# Altium footprint library ESC.PcbLib: 44 footprints (part 2 of 3)
Each footprint in its own frame and in the unit in brackets; x right, y up, seen from the top. Pads: shape width x height; smd on the part's side, far side on the other; paste and mask are expansions set on the pad; w line width, h text height; cw(c..) or ccw(c..) is an arc to the next point about the centre after c.
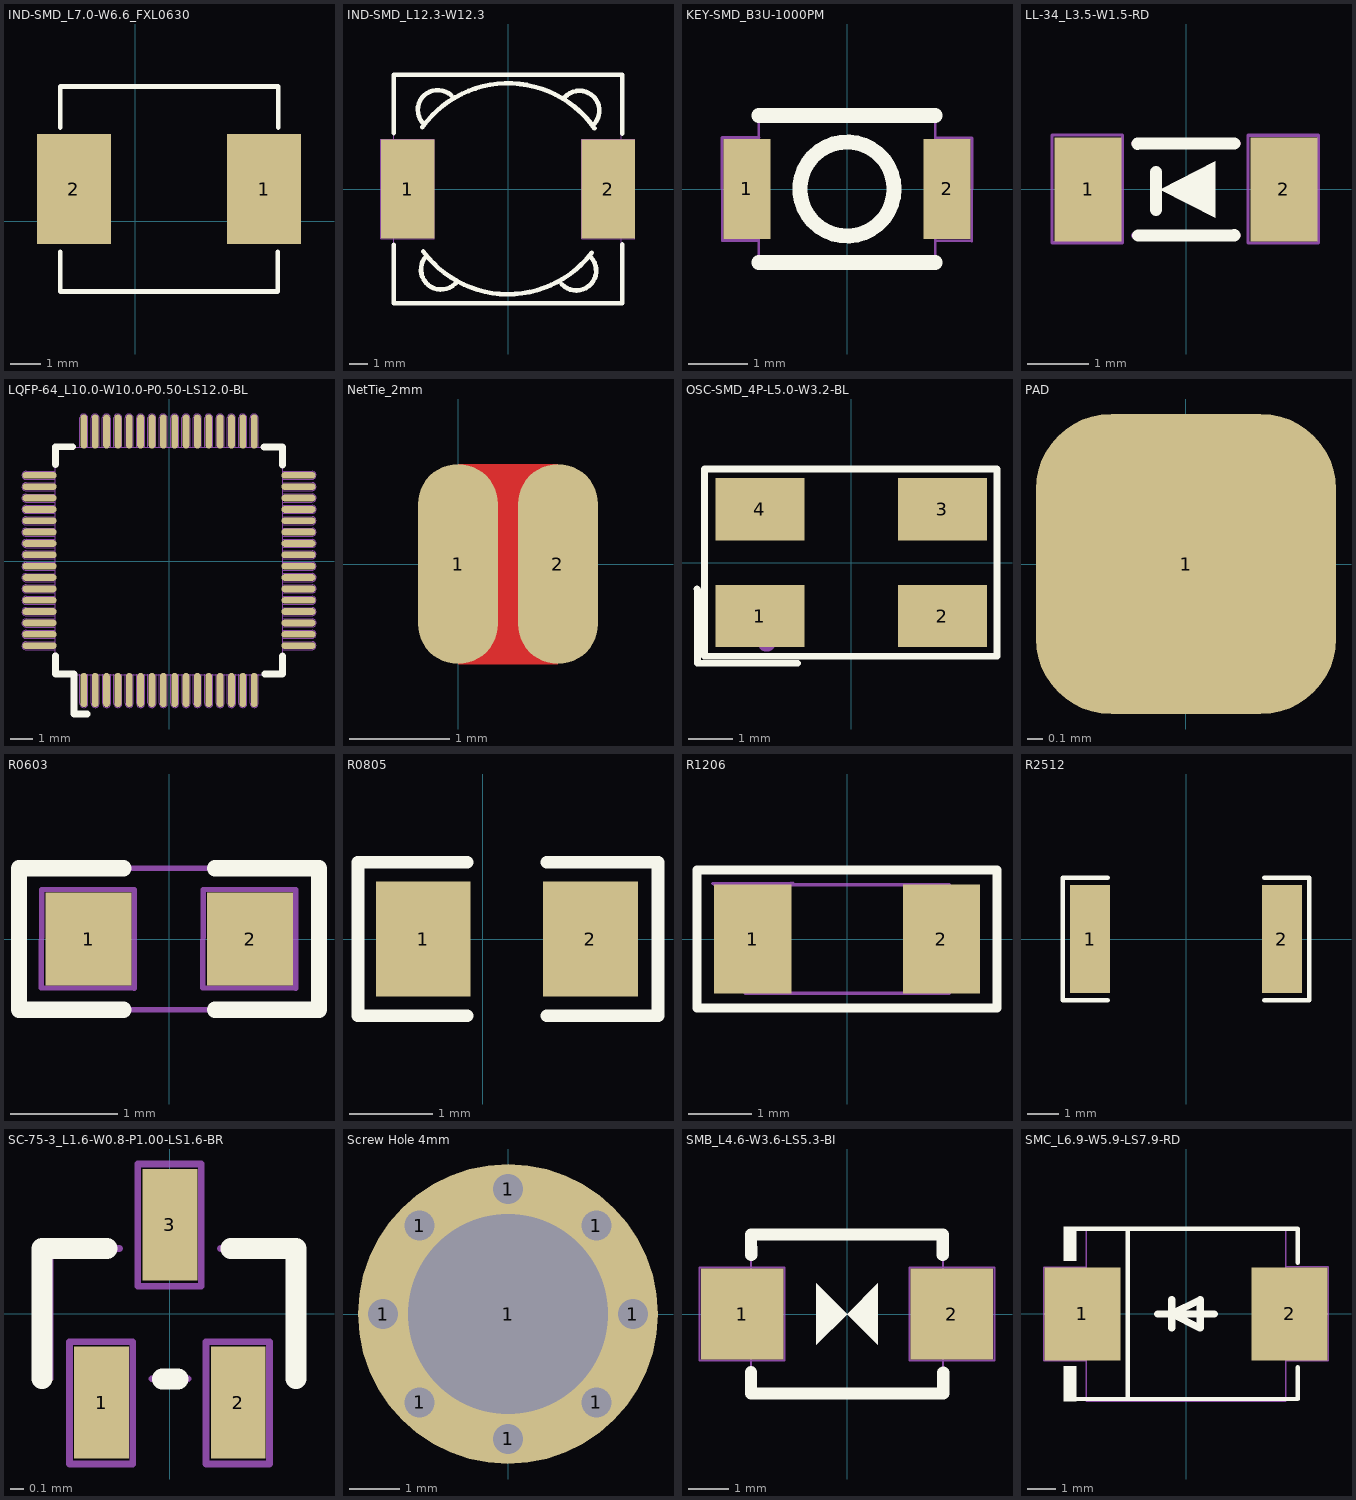
[diagram p1: the footprints below, top view; thin cyan lines are the x and y axes]

## IND-SMD_L7.0-W6.6_FXL0630 [mm] "SMD,7x6.6mm"
height 3
pads (2):
  rect 2.424x3.62 smd paste+0 mask+0.051: 1(4.236,1.067) 2(-2.02,1.067)
Top Overlay:
  lines w0.152: -2.468,-0.998 -2.468,-2.309 4.685,-2.309 4.685,-0.997 ; -2.468,3.093 -2.468,4.443 4.7,4.443 4.7,3.09
3D body "IND_FXL0630_CMT.step": height 3, standoff 0, extent -2.537,-2.365 4.753,4.443

## IND-SMD_L12.3-W12.3 [mm] "SMD,12.3x12.3mm"
height 8
pads (2):
  rect 2.9x5.4 smd paste+0 mask+0.051: 1(-5.45,0) 2(5.45,0)
Top Overlay:
  lines w0.254: -6.2,-3.032 -6.2,-6.2 6.2,-6.2 6.2,-3.016 ; -6.2,3.044 -6.2,6.2 6.2,6.2 6.2,3.012 ; -4.666,3.348 cw(c0,0) 4.7,3.3 ; -4.6,-3.4 ccw(c0,0) 4.552,-3.464 ; -4.55,3.504 cw(c-3.822,4.299) -3.1,5.1 ; -4.534,-3.759 ccw(c-3.641,-4.378) -2.758,-5.011 ; 2.927,-5.176 ccw(c3.711,-4.435) 4.5,-3.7 ; 3.088,4.988 cw(c3.883,4.26) 4.683,3.538
Mechanical 2:
  lines w0.05: -6.905,2.7 -6.905,-2.705 -4,-2.705 -4,2.7 -6.9,2.7 ; 3.995,2.7 3.995,-2.705 6.9,-2.705 6.9,2.7 4,2.7 ; -6.2,-6.15 6.15,-6.15 6.15,6.15 -6.2,6.15 -6.2,-6.15
3D body "IND_CDRH127LDNP-470MC_SUM.step": height 8, standoff 0, extent -6.147,-6.149 6.147,6.149

## KEY-SMD_B3U-1000PM [mm]
height 1.6
pads (2):
  rect 0.8x1.7 smd paste+0 mask+0.051: 1(-1.7,0) 2(1.7,0)
Top Overlay:
  circle w0.254: c0,0 r0.8
  lines w0.254: -1.5,-1.25 1.5,-1.25 -1.5,-1.25 ; -1.5,1.25 1.5,1.25 -1.5,1.25
Mechanical 2:
  circle w0.05: c0,0 r0.762
  lines w0.05: -1.503,-0.877 -2.121,-0.872 -2.124,0.873 -1.492,0.873 ; 1.5,0.87 2.124,0.87 2.121,-0.884 1.507,-0.879 ; -1.5,-1.25 1.5,-1.25 1.5,1.081 1.5,1.25 -1.5,1.25 -1.5,-1.25
3D body "B3U-1000P--3DModel-STEP-56544.STEP": height 1.75, standoff 0, extent -2,-1.25 2,1.25

## LL-34_L3.5-W1.5-RD [mm]
pads (2):
  rect 1.1x1.7 smd paste+0 mask+0.051: 1(-1.6,0) 2(1.6,0)
Top Overlay:
  region: -0.42,-0.005 -0.415,0 0.475,0.46 0.475,-0.46
  lines w0.2: -0.791,0.748 0.789,0.751 ; -0.781,-0.75 0.787,-0.749 ; -0.49,-0.33 -0.49,0.285
Mechanical 2:
  lines w0.05: -2.189,-0.87 -2.189,0.89 -1.039,0.89 -1.039,-0.87 -2.189,-0.87 ; 1.015,-0.875 1.015,0.885 2.165,0.885 2.165,-0.875 1.015,-0.875
  lines w0.1: -0.846,-0.75 0.846,-0.75 ; -0.846,0.75 0.846,0.75
Mechanical 15:
  region: 1.604,-0.335 1.604,0.326 1.782,0.326 1.782,-0.335
  region: 2.035,-0.096 1.374,-0.096 1.374,0.082 2.035,0.082
  region: -1.365,-0.096 -2.026,-0.096 -2.026,0.082 -1.365,0.082
3D body "ZMM5V6HCB--3DModel-STEP-711646.STEP": height 1.52, standoff 0.08, extent -1.75,-0.75 1.75,0.717

## LQFP-64_L10.0-W10.0-P0.50-LS12.0-BL [mm] "LQFP-64(10x10)"
height 1.6
pads (64):
  oval 0.3x1.5 smd paste+0 mask+0.051: 1(-3.75,-5.678) 2(-3.25,-5.678) 3(-2.75,-5.678) 4(-2.25,-5.678) 5(-1.75,-5.678) 6(-1.25,-5.678) 7(-0.75,-5.678) 8(-0.25,-5.678) 9(0.25,-5.678) 10(0.75,-5.678) 11(1.25,-5.678) 12(1.75,-5.678) 13(2.25,-5.678) 14(2.75,-5.678) 15(3.25,-5.678) 16(3.75,-5.678) 33(3.75,5.698) 34(3.25,5.698) 35(2.75,5.698) 36(2.25,5.698) 37(1.75,5.698) 38(1.25,5.698) 39(0.75,5.698) 40(0.25,5.698) 41(-0.25,5.698) 42(-0.75,5.698) 43(-1.25,5.698) 44(-1.75,5.698) 45(-2.25,5.698) 46(-2.75,5.698) 47(-3.25,5.698) 48(-3.75,5.698)
  oval 1.5x0.3 smd paste+0 mask+0.051: 17(5.7,-3.728) 18(5.7,-3.228) 19(5.7,-2.728) 20(5.7,-2.228) 21(5.7,-1.728) 22(5.7,-1.228) 23(5.7,-0.728) 24(5.7,-0.228) 25(5.7,0.272) 26(5.7,0.772) 27(5.7,1.272) 28(5.7,1.772) 29(5.7,2.272) 30(5.7,2.772) 31(5.7,3.272) 32(5.7,3.772) 49(-5.7,3.772) 50(-5.7,3.272) 51(-5.7,2.772) 52(-5.7,2.272) 53(-5.7,1.772) 54(-5.7,1.272) 55(-5.7,0.772) 56(-5.7,0.272) 57(-5.7,-0.228) 58(-5.7,-0.728) 59(-5.7,-1.228) 60(-5.7,-1.728) 61(-5.7,-2.228) 62(-5.7,-2.728) 63(-5.7,-3.228) 64(-5.7,-3.728)
Top Overlay:
  lines w0.3: -5,4.252 -5,5.026 -4.237,5.026 ; -4.2,-4.977 -5,-4.977 -5,-4.167 ; -4.185,-4.978 -4.185,-6.735 -3.6,-6.735 ; 4.183,5.022 5,5.022 5,4.225 ; 4.217,-4.978 5,-4.978 5,-4.187 ; -5,-4.167 -5,-4.167
Mechanical 2:
  drawing of 196 lines, arcs and shapes, not listed
3D body "LQFP64-10x10mm.step": height 1.6, standoff 0, extent -5.979,-6.005 6.015,5.989

## NetTie_2mm [mm] "Net tie, 2mm round"
pads (2):
  oval 0.8x2 smd paste-2: 1(0,0) 2(1,0)
Top Layer:
  region: 0,1 1,1 1,-1 0,-1

## OSC-SMD_4P-L5.0-W3.2-BL [mm]
pads (4):
  rect 2x1.4 smd paste+0 mask+0.051: 1(-2.05,-1.2) 2(2.05,-1.2) 3(2.05,1.2) 4(-2.05,1.2)
Top Overlay:
  lines w0.152: -3.463,-0.59 -3.454,-0.599 -3.454,-2.258 -3.256,-2.258 -1.199,-2.258 ; -2.957,-2.1 -2.956,-2.101 ; -2.956,-2.101 3.279,-2.101 3.279,2.103 -3.296,2.103 -3.296,-2.1 -2.957,-2.1
Mechanical 15:
  circle w0.2: c-1.9,-1.8 r0.1
3D body: height 1.1, standoff 0, extent -2.634,-1.679 2.466,1.621

## PAD [mm]
pads (1):
  rrect50% 2x2 smd mask+0.05: 1(0,0)

## R0603 [mm] "Resister pakage 0603"
height 0.55
pads (2):
  rect 0.806x0.864 smd paste-100 mask+0.051: 1(-0.753,0) 2(0.753,0)
Top Overlay:
  lines w0.152: -0.426,-0.661 -1.402,-0.661 -1.402,0.661 -0.426,0.661 ; 0.426,-0.661 1.397,-0.661 1.397,0.661 0.426,0.661
Top Paste:
  region: 1.195,0.45 0.395,0.45 0.345,0.4 0.345,0.172 0.715,0.172 0.715,-0.158 0.345,-0.158 0.345,-0.4 0.395,-0.45 1.195,-0.45 1.245,-0.4 1.245,0.4
  region: -1.195,-0.45 -0.395,-0.45 -0.345,-0.4 -0.345,-0.172 -0.715,-0.172 -0.715,0.158 -0.345,0.158 -0.345,0.4 -0.395,0.45 -1.195,0.45 -1.245,0.4 -1.245,-0.4
Mechanical 2:
  lines w0.05: -1.385,-0.661 -1.385,0.661 -0.426,0.661 0.426,0.661 1.385,0.661 1.385,-0.661 0.426,-0.661 -0.426,-0.661 -1.385,-0.661 ; -1.193,-0.456 -0.326,-0.46 -0.326,0.461 -1.19,0.461 -1.193,-0.456 ; 0.313,-0.456 1.181,-0.46 1.181,0.461 0.317,0.461 0.313,-0.456
3D body "CircuitWorks-RESISTOR 0603.step": height 0.48, standoff -0.03, extent -0.798,-0.43 0.802,0.43

## R0805 [mm] "0805"
pads (2):
  rect 1.133x1.377 smd paste-100 mask+0.051: 1(-0.712,0) 2(1.288,0)
Top Overlay:
  lines w0.152: -0.188,-0.917 -1.492,-0.917 -1.492,0.917 -0.188,0.917 ; 0.764,-0.917 2.096,-0.917 2.096,0.917 0.764,0.917
3D body "User Library-R0805-2.step": height 0.55, standoff 0, extent -0.9,-0.62 1.5,0.63

## R1206 [mm] "package 1206"
height 0.65
pads (2):
  rect 1.208x1.701 smd paste-100 mask+0.051: 1(-1.479,0) 2(1.479,0)
Top Overlay:
  lines w0.14: -2.353,-1.079 -2.353,1.079 -0.993,1.079 0.91,1.079 2.35,1.079 2.35,-1.079 0.91,-1.079 -0.993,-1.079 -2.353,-1.079
Top Paste:
  region: 0.875,-0.75 0.875,-0.389 0.975,-0.289 1.186,-0.289 1.286,-0.189 1.286,0.189 1.186,0.289 0.975,0.289 0.875,0.389 0.875,0.75 0.975,0.85 1.983,0.85 2.083,0.75 2.083,-0.75 1.983,-0.85 0.975,-0.85
  region: -0.875,-0.75 -0.875,-0.389 -0.975,-0.289 -1.186,-0.289 -1.286,-0.189 -1.286,0.189 -1.186,0.289 -0.975,0.289 -0.875,0.389 -0.875,0.75 -0.975,0.85 -1.983,0.85 -2.083,0.75 -2.083,-0.75 -1.983,-0.85 -0.975,-0.85
Mechanical 2:
  lines w0.05: -2.11,0.87 -0.849,0.88 ; -2.085,0.858 -0.878,0.873 ; -1.6,-0.85 -1.6,0.85 1.6,0.85 1.6,-0.85 -1.6,-0.85
3D body "RC1206JR-0713RL.STEP": height 0.65, standoff 0, extent -1.55,-0.8 1.55,0.8

## R2512 [mm] "R2512"
pads (2):
  rect 1.283x3.456 smd paste-100 mask+0.051: 1(-3.066,0) 2(3.066,0)
Top Overlay:
  lines w0.152: -2.501,-1.957 -3.936,-1.957 -3.936,1.957 -2.501,1.957 ; 2.501,-1.957 3.936,-1.957 3.936,1.957 2.501,1.957
Top Paste:
  region: 2.425,-1.628 2.425,-0.688 2.525,-0.588 2.761,-0.588 2.861,-0.488 2.861,0.488 2.761,0.588 2.525,0.588 2.425,0.688 2.425,1.628 2.525,1.728 3.608,1.728 3.708,1.628 3.708,-1.628 3.608,-1.728 2.525,-1.728
  region: -2.425,-1.628 -2.425,-0.688 -2.525,-0.588 -2.761,-0.588 -2.861,-0.488 -2.861,0.488 -2.761,0.588 -2.525,0.588 -2.425,0.688 -2.425,1.628 -2.525,1.728 -3.608,1.728 -3.708,1.628 -3.708,-1.628 -3.608,-1.728 -2.525,-1.728
3D body "User Library-R2512-1.step": height 0.55, standoff 0, extent -3.35,-1.6 3.35,1.6

## SC-75-3_L1.6-W0.8-P1.00-LS1.6-BR [mm] "SOT-416"
pads (3):
  rect 0.4x0.816 smd paste+0 mask+0.051: 1(-0.5,-0.65) 2(0.5,-0.65) 3(0,0.65)
Top Overlay:
  lines w0.152: -0.937,-0.476 -0.937,0.476 -0.46,0.476 ; -0.056,-0.478 0.058,-0.478 ; 0.445,0.476 0.923,0.476 0.923,-0.476
Mechanical 2:
  lines w0.05: -0.876,-0.476 -0.876,0.476 -0.369,0.476 ; -0.131,-0.476 0.131,-0.476 ; 0.369,0.476 0.876,0.476 0.876,-0.476 ; -0.735,-1.099 -0.735,-0.206 -0.272,-0.206 -0.272,-1.099 -0.735,-1.099 ; -0.235,0.201 -0.235,1.094 0.228,1.094 0.228,0.201 -0.235,0.201 ; 0.265,-1.099 0.265,-0.206 0.728,-0.206 0.728,-1.099 0.265,-1.099
3D body "User Library-SOT-416.step": height 0.78, standoff -0.02, extent -0.8,-0.8 0.8,0.8

## Screw Hole 4mm [mm]
pads (9):
  round 0.6 hole 0.6: 1(-2.5,0) 1(-1.768,-1.768) 1(-1.768,1.768) 1(0,-2.5) 1(0,2.5) 1(1.768,-1.768) 1(1.768,1.768) 1(2.5,0)
  round 6 hole 4: 1(0,0)

## SMB_L4.6-W3.6-LS5.3-BI [mm] "TVS DIODE 5VWM 9.2VC DO-214AA"
height 2.61
pads (2):
  rect 2.047x2.241 smd paste+0 mask+0.051: 1(-2.591,0) 2(2.591,0)
Top Overlay:
  region: 0.762,-0.762 0,0 0.762,0.762
  region: -0.762,-0.762 -0.762,0.762 0,0
  lines w0.3: -2.378,-1.949 -2.378,-1.442 ; -2.375,-1.97 2.381,-1.97 2.381,-1.452 ; -2.375,1.97 2.375,1.97 ; -2.373,1.927 -2.37,1.458 ; 2.37,1.456 2.37,1.969
Mechanical 2:
  lines w0.05: -3.65,-1.15 -3.65,1.15 -1.55,1.15 -1.55,-1.15 -3.65,-1.15 ; -2.375,-1.97 -2.375,1.97 2.375,1.97 2.375,-1.97 -2.375,-1.97 ; 1.55,-1.15 1.55,1.15 3.65,1.15 3.65,-1.15 1.55,-1.15
3D body "SMBJ60CA.STEP": height 2.65, standoff 0, extent -2.64,-1.806 2.7,1.819

## SMC_L6.9-W5.9-LS7.9-RD [mm] "SMC(DO-214AB)"
height 2.62
pads (2):
  rect 2.7x3.3 smd paste+0 mask+0.051: 1(-3.686,0) 2(3.686,0)
Top Overlay:
  region: -3.9,-3.102 -3.9,-1.865 -4.357,-1.865 -4.357,-3.102
  region: -3.9,3.102 -3.9,1.884 -4.357,1.884 -4.357,3.102
  lines w0.152: -3.976,-3.026 3.976,-3.026 3.976,-1.9 ; -3.976,3.026 3.976,3.026 3.976,1.823 ; -2.069,-3.026 -2.069,3.026
  lines w0.254: -1.016,0 1.016,0 ; -0.508,0.508 -0.508,-0.508 -0.508,0 ; -0.508,0 0.508,0.508 0.508,-0.508 -0.508,0
Mechanical 2:
  lines w0.05: -3.557,-1.671 -5.058,-1.671 -5.058,1.665 -3.552,1.665 ; 3.552,-1.665 5.058,-1.665 5.058,1.671 3.557,1.671 ; -3.555,-3.11 3.555,-3.11 3.555,3.026 -3.555,3.026 -3.555,-3.11
Mechanical 15:
  region: 2.794,-1.475 2.794,1.475 2.351,1.475 2.351,-1.475
3D body "User Library-DIOM8261X24.step": height 2.4, standoff 0.03, extent -4.215,-3 3.915,3.1